# Altium integrated library Analog Devices Data Converters Digital-to-Analog Converters.IntLib: 2231 symbols (part 120 of 181)
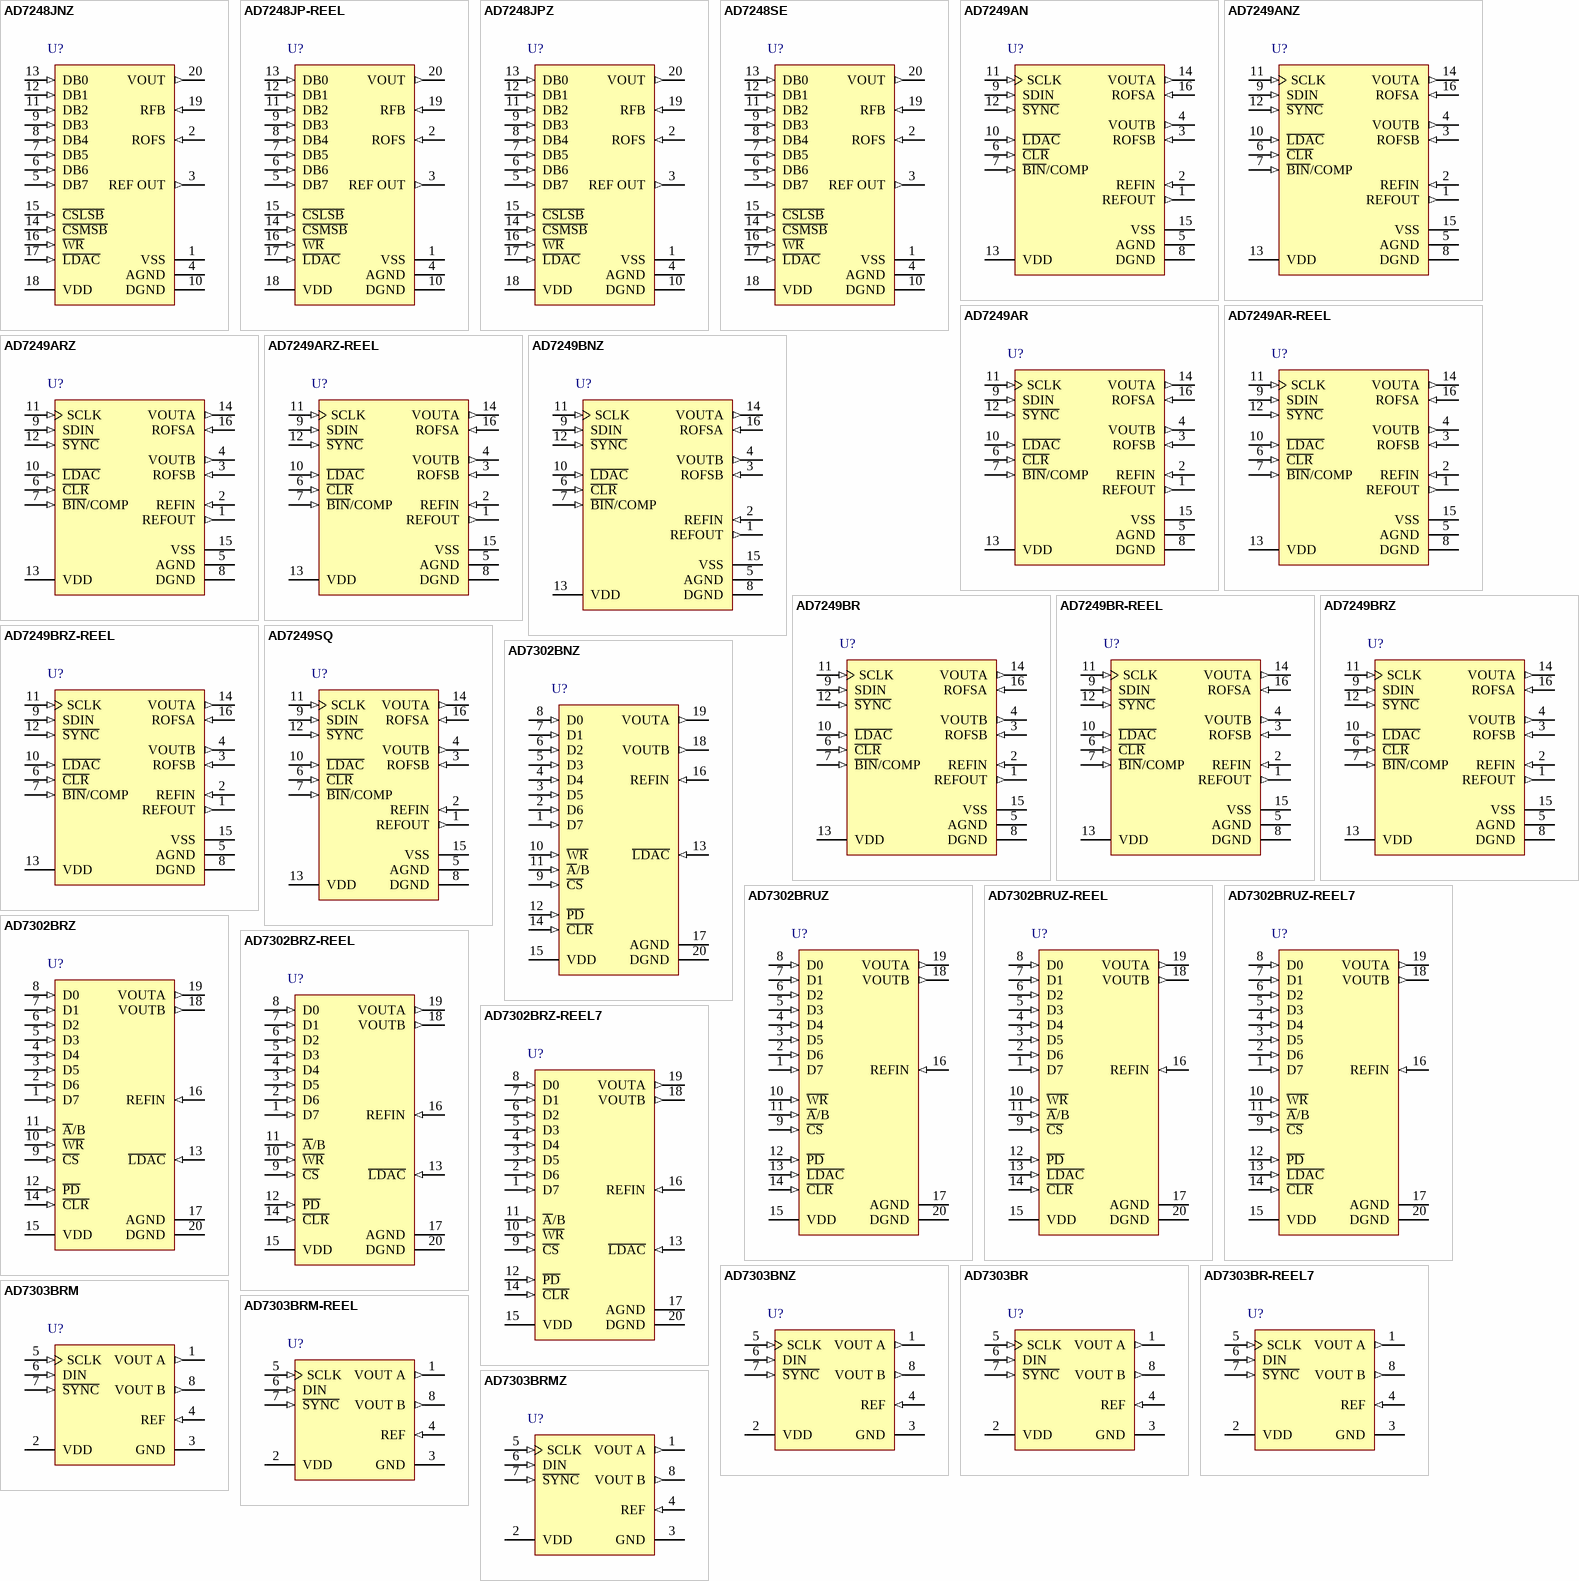
[diagram p233: symbols AD7248JNZ to AD7303BRMZ]

## AD7303BR
designator U?
Dual 8-Bit Voltage Output Digital-to-Analog Converter with Serial Interface, 2.7 to 5.5 V, 0 to +70 degC, R-8, Tube; Generic Part Number: AD7303; Manufacturer: Analog Devices; PartNumber: AD7303BR; # DAC Outputs: 2; Max V+: 5.5V; Op Pwr Diss: 6.93mW; Resolution (Bits): 8; Settling Time: 1.2µs; Single Supply: Yes; DatasheetVersion: Rev.0; PackageVersion: 060506-A; PackageReference: R-8; PackageDescription: 8-Lead Standard Small Outline Package [SOIC_N] Narrow Body; Supplier 1: Digi-Key; Supplier Part Number 1: AD7303BR-ND; Supplier 2: Mouser; Supplier Part Number 2: 584-AD7303BR; Packing: Tube; RoHS: N; Mounting Technology: Surface Mount; Code_JEDEC: MS-012-AA; Code_IPC: SOIC127P600-8; ComponentLink1Description: Manufacturer URL; ComponentLink1URL: http://www.analog.com/en/index.html; ComponentLink2Description: Datasheet; ComponentLink2URL: http://www.analog.com/static/imported-files/data_sheets/AD7303.pdf; ComponentLink3Description: Package Specification; ComponentLink3URL: http://www.analog.com/static/imported-files/packages/PKG_PDF/SOIC_Narrow%20(R)/R_8.pdf; ComponentLink4Description: Product URL; ComponentLink4URL: http://www.analog.com/en/digital-to-analog-converters/da-converters/ad7303/products/product.html
footprint R-8_N (SOIC, 8-Leads, Body 4.9x3.9mm, Pitch 1.27mm, IPC Medium Density)
footprint R-8_L (SOIC, 8-Leads, Body 4.9x3.9mm, Pitch 1.27mm, IPC High Density)
footprint R-8_M (SOIC, 8-Leads, Body 4.9x3.9mm, Pitch 1.27mm, IPC Low Density)
pins: 1 VOUT A (out) "Analog Output Voltage from DAC A. The output amplifier swings rail to rail on its output.", 2 VDD (power) "Power Supply Input. These parts can be operated from +2.7 V to +5.5 V and should be decoupled to GND.", 3 GND (power) "Ground reference point for all circuitry on the part.", 4 REF (in) "External Reference Input. This can be used as the reference for both DACs, and is selected by setting the I\N\T\/EXT bit in the control register to a logic one. The range on this reference input is 1 V to VDD/2. When the (See Datasheet)", 5 SCLK (in) "Serial Clock. Logic Input. Data is clocked into the input shift register on the rising edge of the serial clock input. Data can be transferred at rates up to 30 MHz.", 6 DIN (in) "Serial Data Input. This device has a 16-bit shift register, 8 bits for data and 8 bits for control. Data is clocked into the register on the rising edge of the clock input.", 7 ~{SYNC} (in) "Level Triggered Control Input (active low). This is the frame synchronization signal for the input data. When S\Y\N\C\ goes low, it enables the input shift register and data is transferred in on the rising edges of the (See Datasheet)", 8 VOUT B (out) "Analog output voltage from DAC B. The output amplifier swings rail to rail on its output."

## AD7303BR-REEL7
designator U?
Dual 8-Bit Voltage Output Digital-to-Analog Converter with Serial Interface, 2.7 to 5.5 V, 0 to +70 degC, R-8, Reel; Generic Part Number: AD7303; Manufacturer: Analog Devices; PartNumber: AD7303BR-REEL7; # DAC Outputs: 2; Max V+: 5.5V; Op Pwr Diss: 6.93mW; Resolution (Bits): 8; Settling Time: 1.2µs; Single Supply: Yes; DatasheetVersion: Rev.0; PackageVersion: 060506-A; PackageReference: R-8; PackageDescription: 8-Lead Standard Small Outline Package [SOIC_N] Narrow Body; Supplier 1: Digi-Key; Supplier Part Number 1: AD7303BR-REEL7-ND; Supplier 2: Mouser; Supplier Part Number 2: 584-AD7303BR-R7; Packing: Reel; RoHS: N; Mounting Technology: Surface Mount; Code_JEDEC: MS-012-AA; Code_IPC: SOIC127P600-8; ComponentLink1Description: Manufacturer URL; ComponentLink1URL: http://www.analog.com/en/index.html; ComponentLink2Description: Datasheet; ComponentLink2URL: http://www.analog.com/static/imported-files/data_sheets/AD7303.pdf; ComponentLink3Description: Package Specification; ComponentLink3URL: http://www.analog.com/static/imported-files/packages/PKG_PDF/SOIC_Narrow%20(R)/R_8.pdf; ComponentLink4Description: Product URL; ComponentLink4URL: http://www.analog.com/en/digital-to-analog-converters/da-converters/ad7303/products/product.html
footprint R-8_N (SOIC, 8-Leads, Body 4.9x3.9mm, Pitch 1.27mm, IPC Medium Density)
footprint R-8_L (SOIC, 8-Leads, Body 4.9x3.9mm, Pitch 1.27mm, IPC High Density)
footprint R-8_M (SOIC, 8-Leads, Body 4.9x3.9mm, Pitch 1.27mm, IPC Low Density)
pins: 1 VOUT A (out) "Analog Output Voltage from DAC A. The output amplifier swings rail to rail on its output.", 2 VDD (power) "Power Supply Input. These parts can be operated from +2.7 V to +5.5 V and should be decoupled to GND.", 3 GND (power) "Ground reference point for all circuitry on the part.", 4 REF (in) "External Reference Input. This can be used as the reference for both DACs, and is selected by setting the I\N\T\/EXT bit in the control register to a logic one. The range on this reference input is 1 V to VDD/2. When the (See Datasheet)", 5 SCLK (in) "Serial Clock. Logic Input. Data is clocked into the input shift register on the rising edge of the serial clock input. Data can be transferred at rates up to 30 MHz.", 6 DIN (in) "Serial Data Input. This device has a 16-bit shift register, 8 bits for data and 8 bits for control. Data is clocked into the register on the rising edge of the clock input.", 7 ~{SYNC} (in) "Level Triggered Control Input (active low). This is the frame synchronization signal for the input data. When S\Y\N\C\ goes low, it enables the input shift register and data is transferred in on the rising edges of the (See Datasheet)", 8 VOUT B (out) "Analog output voltage from DAC B. The output amplifier swings rail to rail on its output."

## AD7303BRM
designator U?
Dual 8-Bit Voltage Output Digital-to-Analog Converter with Serial Interface, 2.7 to 5.5 V, -40 to +105 degC, RM-8, Tube; Generic Part Number: AD7303; Manufacturer: Analog Devices; PartNumber: AD7303BRM; # DAC Outputs: 2; Max V+: 5.5V; Op Pwr Diss: 6.93mW; Resolution (Bits): 8; Settling Time: 1.2µs; Single Supply: Yes; DatasheetVersion: Rev.0; PackageVersion: Aug-2005; PackageReference: RM-8; PackageDescription: 8-Lead Mini Small Outline Package [MSOP]; Supplier 1: Digi-Key; Supplier Part Number 1: AD7303BRM-ND; Supplier 2: Mouser; Supplier Part Number 2: 584-AD7303BRM; Packing: Tube; RoHS: N; Mounting Technology: Surface Mount; Code_JEDEC: MO-187-AA; ComponentLink1Description: Manufacturer URL; ComponentLink1URL: http://www.analog.com/en/index.html; ComponentLink2Description: Datasheet; ComponentLink2URL: http://www.analog.com/static/imported-files/data_sheets/AD7303.pdf; ComponentLink3Description: Package Specification; ComponentLink3URL: http://www.analog.com/static/imported-files/packages/PKG_PDF/MSOP%28RM%29/RM_8.pdf; ComponentLink4Description: Product URL; ComponentLink4URL: http://www.analog.com/en/digital-to-analog-converters/da-converters/ad7303/products/product.html
footprint RM-8_N (TSOP, 8-Leads, Body 3x3mm, Pitch 0.65mm, IPC Medium Density)
footprint RM-8_L (TSOP, 8-Leads, Body 3x3mm, Pitch 0.65mm, IPC High Density)
footprint RM-8_M (TSOP, 8-Leads, Body 3x3mm, Pitch 0.65mm, IPC Low Density)
pins: 1 VOUT A (out) "Analog Output Voltage from DAC A. The output amplifier swings rail to rail on its output.", 2 VDD (power) "Power Supply Input. These parts can be operated from +2.7 V to +5.5 V and should be decoupled to GND.", 3 GND (power) "Ground reference point for all circuitry on the part.", 4 REF (in) "External Reference Input. This can be used as the reference for both DACs, and is selected by setting the I\N\T\/EXT bit in the control register to a logic one. The range on this reference input is 1 V to VDD/2. When the (See Datasheet)", 5 SCLK (in) "Serial Clock. Logic Input. Data is clocked into the input shift register on the rising edge of the serial clock input. Data can be transferred at rates up to 30 MHz.", 6 DIN (in) "Serial Data Input. This device has a 16-bit shift register, 8 bits for data and 8 bits for control. Data is clocked into the register on the rising edge of the clock input.", 7 ~{SYNC} (in) "Level Triggered Control Input (active low). This is the frame synchronization signal for the input data. When S\Y\N\C\ goes low, it enables the input shift register and data is transferred in on the rising edges of the (See Datasheet)", 8 VOUT B (out) "Analog output voltage from DAC B. The output amplifier swings rail to rail on its output."

## AD7303BRM-REEL
designator U?
Dual 8-Bit Voltage Output Digital-to-Analog Converter with Serial Interface, 2.7 to 5.5 V, -40 to +105 degC, RM-8, Reel; Generic Part Number: AD7303; Manufacturer: Analog Devices; PartNumber: AD7303BRM-REEL; # DAC Outputs: 2; Max V+: 5.5V; Op Pwr Diss: 6.93mW; Resolution (Bits): 8; Settling Time: 1.2µs; Single Supply: Yes; DatasheetVersion: Rev.0; PackageVersion: Aug-2005; PackageReference: RM-8; PackageDescription: 8-Lead Mini Small Outline Package [MSOP]; Supplier 1: Mouser; Supplier Part Number 1: N/A; Packing: Reel; RoHS: N; Mounting Technology: Surface Mount; Code_JEDEC: MO-187-AA; ComponentLink1Description: Manufacturer URL; ComponentLink1URL: http://www.analog.com/en/index.html; ComponentLink2Description: Datasheet; ComponentLink2URL: http://www.analog.com/static/imported-files/data_sheets/AD7303.pdf; ComponentLink3Description: Package Specification; ComponentLink3URL: http://www.analog.com/static/imported-files/packages/PKG_PDF/MSOP%28RM%29/RM_8.pdf; ComponentLink4Description: Product URL; ComponentLink4URL: http://www.analog.com/en/digital-to-analog-converters/da-converters/ad7303/products/product.html
footprint RM-8_N (TSOP, 8-Leads, Body 3x3mm, Pitch 0.65mm, IPC Medium Density)
footprint RM-8_L (TSOP, 8-Leads, Body 3x3mm, Pitch 0.65mm, IPC High Density)
footprint RM-8_M (TSOP, 8-Leads, Body 3x3mm, Pitch 0.65mm, IPC Low Density)
pins: 1 VOUT A (out) "Analog Output Voltage from DAC A. The output amplifier swings rail to rail on its output.", 2 VDD (power) "Power Supply Input. These parts can be operated from +2.7 V to +5.5 V and should be decoupled to GND.", 3 GND (power) "Ground reference point for all circuitry on the part.", 4 REF (in) "External Reference Input. This can be used as the reference for both DACs, and is selected by setting the I\N\T\/EXT bit in the control register to a logic one. The range on this reference input is 1 V to VDD/2. When the (See Datasheet)", 5 SCLK (in) "Serial Clock. Logic Input. Data is clocked into the input shift register on the rising edge of the serial clock input. Data can be transferred at rates up to 30 MHz.", 6 DIN (in) "Serial Data Input. This device has a 16-bit shift register, 8 bits for data and 8 bits for control. Data is clocked into the register on the rising edge of the clock input.", 7 ~{SYNC} (in) "Level Triggered Control Input (active low). This is the frame synchronization signal for the input data. When S\Y\N\C\ goes low, it enables the input shift register and data is transferred in on the rising edges of the (See Datasheet)", 8 VOUT B (out) "Analog output voltage from DAC B. The output amplifier swings rail to rail on its output."

## AD7303BRMZ
designator U?
Dual 8-Bit Voltage Output Digital-to-Analog Converter with Serial Interface, 2.7 to 5.5 V, -40 to +105 degC, RM-8, Pb-Free, Tube; Generic Part Number: AD7303; Manufacturer: Analog Devices; PartNumber: AD7303BRMZ; # DAC Outputs: 2; Max V+: 5.5V; Op Pwr Diss: 6.93mW; Resolution (Bits): 8; Settling Time: 1.2µs; Single Supply: Yes; DatasheetVersion: Rev.0; PackageVersion: Aug-2005; PackageReference: RM-8; PackageDescription: 8-Lead Mini Small Outline Package [MSOP]; Supplier 1: Digi-Key; Supplier Part Number 1: AD7303BRMZ-ND; Supplier 2: Newark; Supplier Part Number 2: 59K4694; Supplier 3: Mouser; Supplier Part Number 3: 584-AD7303BRMZ; Packing: Tube; RoHS: Y; Mounting Technology: Surface Mount; Code_JEDEC: MO-187-AA; ComponentLink1Description: Manufacturer URL; ComponentLink1URL: http://www.analog.com/en/index.html; ComponentLink2Description: Datasheet; ComponentLink2URL: http://www.analog.com/static/imported-files/data_sheets/AD7303.pdf; ComponentLink3Description: Package Specification; ComponentLink3URL: http://www.analog.com/static/imported-files/packages/PKG_PDF/MSOP%28RM%29/RM_8.pdf; ComponentLink4Description: Product URL; ComponentLink4URL: http://www.analog.com/en/digital-to-analog-converters/da-converters/ad7303/products/product.html
footprint RM-8_N (TSOP, 8-Leads, Body 3x3mm, Pitch 0.65mm, IPC Medium Density)
footprint RM-8_L (TSOP, 8-Leads, Body 3x3mm, Pitch 0.65mm, IPC High Density)
footprint RM-8_M (TSOP, 8-Leads, Body 3x3mm, Pitch 0.65mm, IPC Low Density)
pins: 1 VOUT A (out) "Analog Output Voltage from DAC A. The output amplifier swings rail to rail on its output.", 2 VDD (power) "Power Supply Input. These parts can be operated from +2.7 V to +5.5 V and should be decoupled to GND.", 3 GND (power) "Ground reference point for all circuitry on the part.", 4 REF (in) "External Reference Input. This can be used as the reference for both DACs, and is selected by setting the I\N\T\/EXT bit in the control register to a logic one. The range on this reference input is 1 V to VDD/2. When the (See Datasheet)", 5 SCLK (in) "Serial Clock. Logic Input. Data is clocked into the input shift register on the rising edge of the serial clock input. Data can be transferred at rates up to 30 MHz.", 6 DIN (in) "Serial Data Input. This device has a 16-bit shift register, 8 bits for data and 8 bits for control. Data is clocked into the register on the rising edge of the clock input.", 7 ~{SYNC} (in) "Level Triggered Control Input (active low). This is the frame synchronization signal for the input data. When S\Y\N\C\ goes low, it enables the input shift register and data is transferred in on the rising edges of the (See Datasheet)", 8 VOUT B (out) "Analog output voltage from DAC B. The output amplifier swings rail to rail on its output."

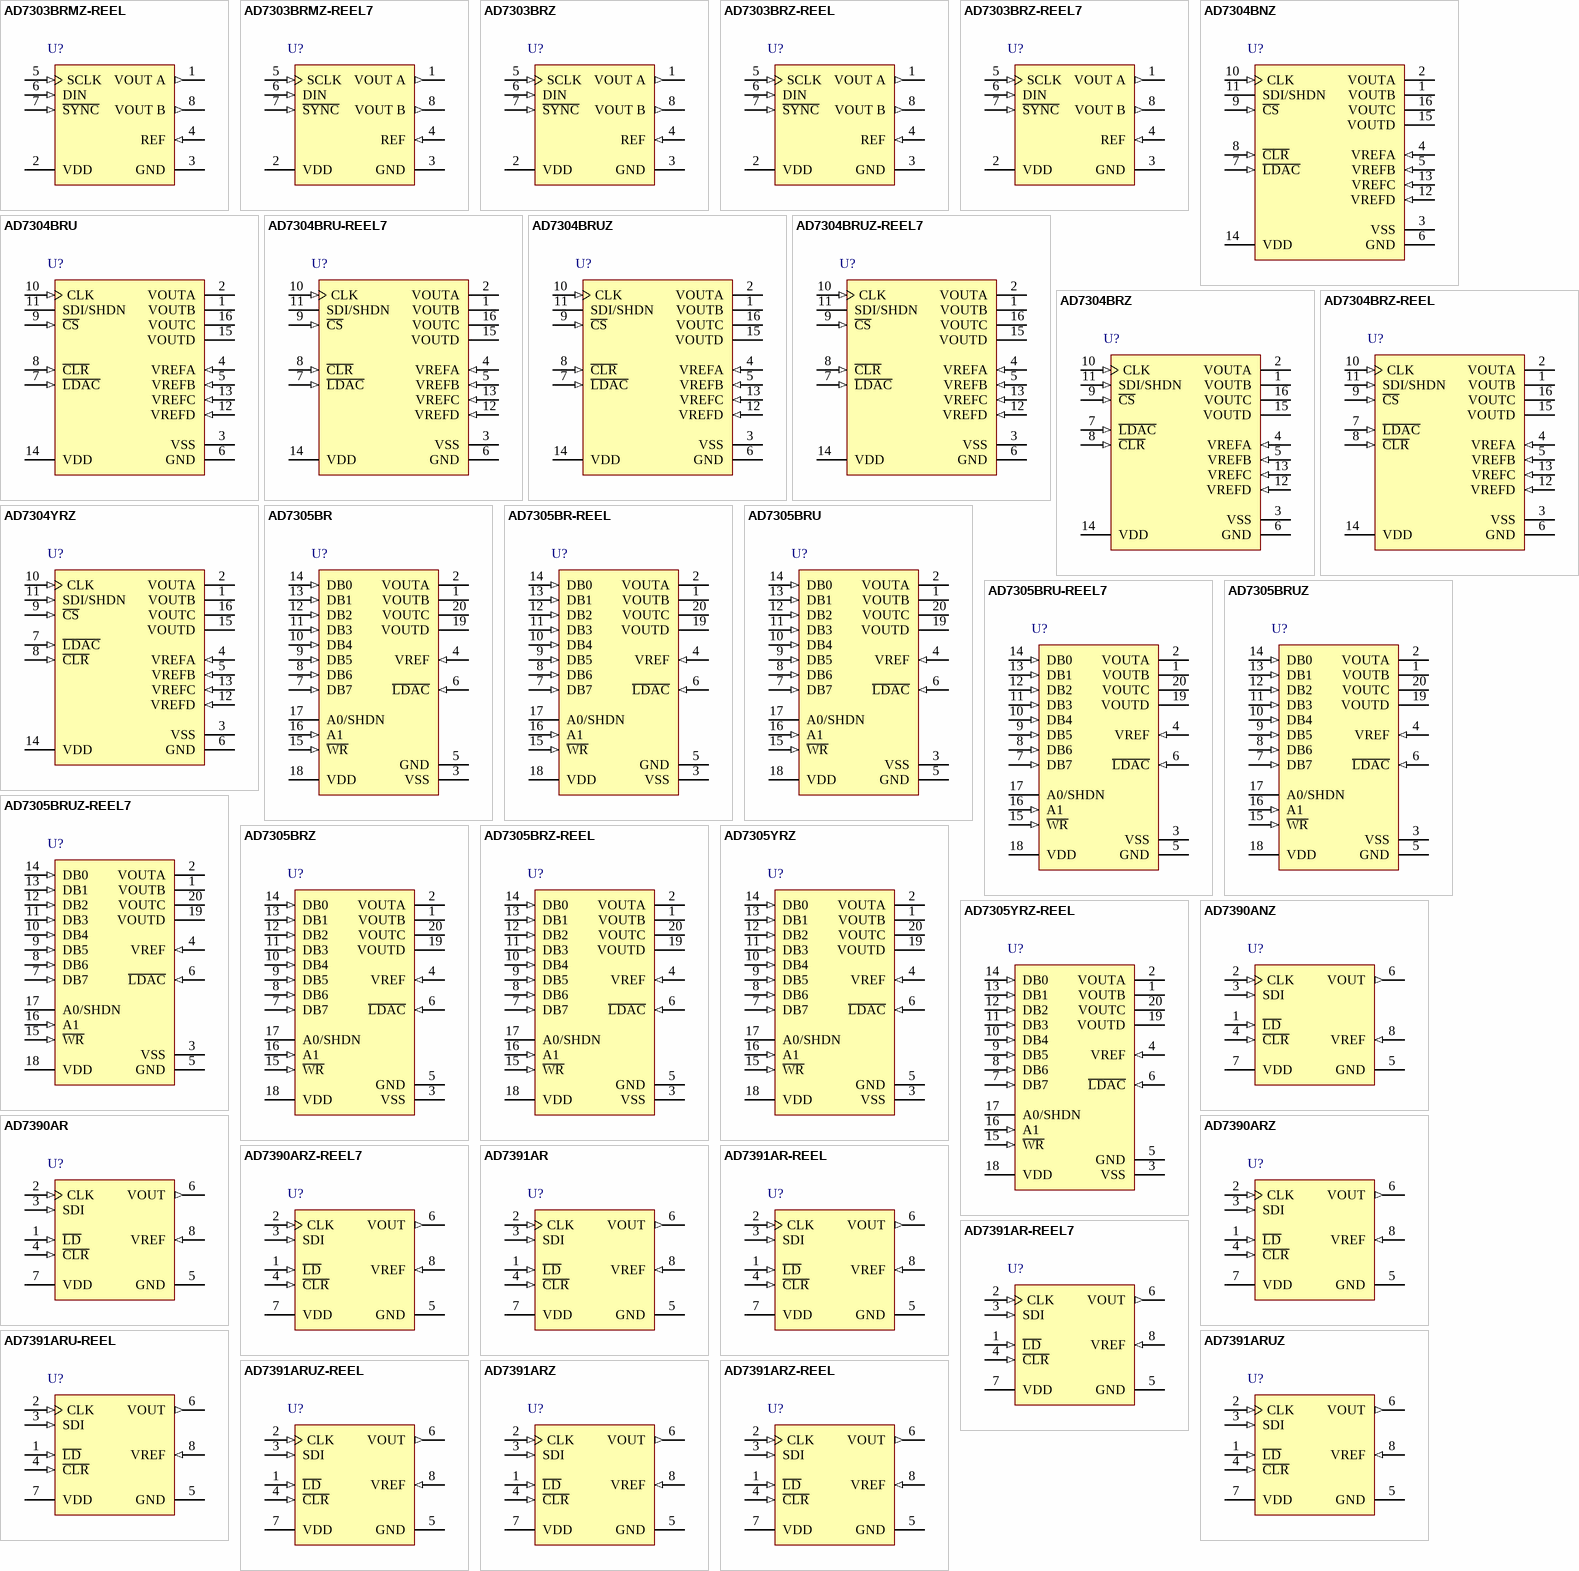
[diagram p64: symbols AD7303BRMZ-REEL to AD7391ARZ-REEL]

## AD7303BRMZ-REEL
designator U?
Dual 8-Bit Voltage Output Digital-to-Analog Converter with Serial Interface, 2.7 to 5.5 V, 0 to +70 degC, RM-8, Pb-Free, Reel; Generic Part Number: AD7303; Manufacturer: Analog Devices; PartNumber: AD7303BRMZ-REEL; # DAC Outputs: 2; Max V+: 5.5V; Op Pwr Diss: 6.93mW; Resolution (Bits): 8; Settling Time: 1.2µs; Single Supply: Yes; DatasheetVersion: Rev.0; PackageVersion: Aug-2005; PackageReference: RM-8; PackageDescription: 8-Lead Mini Small Outline Package [MSOP]; Supplier 1: Digi-Key; Supplier Part Number 1: AD7303BRMZ-REEL-ND; Supplier 2: Mouser; Supplier Part Number 2: 584-AD7303BRMZ-R; Packing: Reel; RoHS: Y; Mounting Technology: Surface Mount; Code_JEDEC: MO-187-AA; ComponentLink1Description: Manufacturer URL; ComponentLink1URL: http://www.analog.com/en/index.html; ComponentLink2Description: Datasheet; ComponentLink2URL: http://www.analog.com/static/imported-files/data_sheets/AD7303.pdf; ComponentLink3Description: Package Specification; ComponentLink3URL: http://www.analog.com/static/imported-files/packages/PKG_PDF/MSOP%28RM%29/RM_8.pdf; ComponentLink4Description: Product URL; ComponentLink4URL: http://www.analog.com/en/digital-to-analog-converters/da-converters/ad7303/products/product.html
footprint RM-8_N (TSOP, 8-Leads, Body 3x3mm, Pitch 0.65mm, IPC Medium Density)
footprint RM-8_L (TSOP, 8-Leads, Body 3x3mm, Pitch 0.65mm, IPC High Density)
footprint RM-8_M (TSOP, 8-Leads, Body 3x3mm, Pitch 0.65mm, IPC Low Density)
pins: 1 VOUT A (out) "Analog Output Voltage from DAC A. The output amplifier swings rail to rail on its output.", 2 VDD (power) "Power Supply Input. These parts can be operated from +2.7 V to +5.5 V and should be decoupled to GND.", 3 GND (power) "Ground reference point for all circuitry on the part.", 4 REF (in) "External Reference Input. This can be used as the reference for both DACs, and is selected by setting the I\N\T\/EXT bit in the control register to a logic one. The range on this reference input is 1 V to VDD/2. When the (See Datasheet)", 5 SCLK (in) "Serial Clock. Logic Input. Data is clocked into the input shift register on the rising edge of the serial clock input. Data can be transferred at rates up to 30 MHz.", 6 DIN (in) "Serial Data Input. This device has a 16-bit shift register, 8 bits for data and 8 bits for control. Data is clocked into the register on the rising edge of the clock input.", 7 ~{SYNC} (in) "Level Triggered Control Input (active low). This is the frame synchronization signal for the input data. When S\Y\N\C\ goes low, it enables the input shift register and data is transferred in on the rising edges of the (See Datasheet)", 8 VOUT B (out) "Analog output voltage from DAC B. The output amplifier swings rail to rail on its output."

## AD7303BRMZ-REEL7
designator U?
Dual 8-Bit Voltage Output Digital-to-Analog Converter with Serial Interface, 2.7 to 5.5 V, 0 to +70 degC, RM-8, Pb-Free, Reel; Generic Part Number: AD7303; Manufacturer: Analog Devices; PartNumber: AD7303BRMZ-REEL7; # DAC Outputs: 2; Max V+: 5.5V; Op Pwr Diss: 6.93mW; Resolution (Bits): 8; Settling Time: 1.2µs; Single Supply: Yes; DatasheetVersion: Rev.0; PackageVersion: Aug-2005; PackageReference: RM-8; PackageDescription: 8-Lead Mini Small Outline Package [MSOP]; Supplier 1: Digi-Key; Supplier Part Number 1: AD7303BRMZ-REEL7-ND; Supplier 2: Mouser; Supplier Part Number 2: 584-AD7303BRMZ-R7; Packing: Reel; RoHS: Y; Mounting Technology: Surface Mount; Code_JEDEC: MO-187-AA; ComponentLink1Description: Manufacturer URL; ComponentLink1URL: http://www.analog.com/en/index.html; ComponentLink2Description: Datasheet; ComponentLink2URL: http://www.analog.com/static/imported-files/data_sheets/AD7303.pdf; ComponentLink3Description: Package Specification; ComponentLink3URL: http://www.analog.com/static/imported-files/packages/PKG_PDF/MSOP%28RM%29/RM_8.pdf; ComponentLink4Description: Product URL; ComponentLink4URL: http://www.analog.com/en/digital-to-analog-converters/da-converters/ad7303/products/product.html
footprint RM-8_N (TSOP, 8-Leads, Body 3x3mm, Pitch 0.65mm, IPC Medium Density)
footprint RM-8_L (TSOP, 8-Leads, Body 3x3mm, Pitch 0.65mm, IPC High Density)
footprint RM-8_M (TSOP, 8-Leads, Body 3x3mm, Pitch 0.65mm, IPC Low Density)
pins: 1 VOUT A (out) "Analog Output Voltage from DAC A. The output amplifier swings rail to rail on its output.", 2 VDD (power) "Power Supply Input. These parts can be operated from +2.7 V to +5.5 V and should be decoupled to GND.", 3 GND (power) "Ground reference point for all circuitry on the part.", 4 REF (in) "External Reference Input. This can be used as the reference for both DACs, and is selected by setting the I\N\T\/EXT bit in the control register to a logic one. The range on this reference input is 1 V to VDD/2. When the (See Datasheet)", 5 SCLK (in) "Serial Clock. Logic Input. Data is clocked into the input shift register on the rising edge of the serial clock input. Data can be transferred at rates up to 30 MHz.", 6 DIN (in) "Serial Data Input. This device has a 16-bit shift register, 8 bits for data and 8 bits for control. Data is clocked into the register on the rising edge of the clock input.", 7 ~{SYNC} (in) "Level Triggered Control Input (active low). This is the frame synchronization signal for the input data. When S\Y\N\C\ goes low, it enables the input shift register and data is transferred in on the rising edges of the (See Datasheet)", 8 VOUT B (out) "Analog output voltage from DAC B. The output amplifier swings rail to rail on its output."

## AD7303BRZ
designator U?
Dual 8-Bit Voltage Output Digital-to-Analog Converter with Serial Interface, 2.7 to 5.5 V, 0 to +70 degC, R-8, Pb-Free, Tube; Generic Part Number: AD7303; Manufacturer: Analog Devices; PartNumber: AD7303BRZ; # DAC Outputs: 2; Max V+: 5.5V; Op Pwr Diss: 6.93mW; Resolution (Bits): 8; Settling Time: 1.2µs; Single Supply: Yes; DatasheetVersion: Rev.0; PackageVersion: 060506-A; PackageReference: R-8; PackageDescription: 8-Lead Standard Small Outline Package [SOIC_N] Narrow Body; Supplier 1: Digi-Key; Supplier Part Number 1: AD7303BRZ-ND; Supplier 2: Farnell; Supplier Part Number 2: 1838896; Supplier 3: Newark; Supplier Part Number 3: 19M8835; Supplier 4: Newark; Supplier Part Number 4: 04X4616; Supplier 5: Mouser; Supplier Part Number 5: 584-AD7303BRZ; Packing: Tube; RoHS: Y; Mounting Technology: Surface Mount; Code_JEDEC: MS-012-AA; Code_IPC: SOIC127P600-8; ComponentLink1Description: Manufacturer URL; ComponentLink1URL: http://www.analog.com/en/index.html; ComponentLink2Description: Datasheet; ComponentLink2URL: http://www.analog.com/static/imported-files/data_sheets/AD7303.pdf; ComponentLink3Description: Package Specification; ComponentLink3URL: http://www.analog.com/static/imported-files/packages/PKG_PDF/SOIC_Narrow%20(R)/R_8.pdf; ComponentLink4Description: Product URL; ComponentLink4URL: http://www.analog.com/en/digital-to-analog-converters/da-converters/ad7303/products/product.html
footprint R-8_N (SOIC, 8-Leads, Body 4.9x3.9mm, Pitch 1.27mm, IPC Medium Density)
footprint R-8_L (SOIC, 8-Leads, Body 4.9x3.9mm, Pitch 1.27mm, IPC High Density)
footprint R-8_M (SOIC, 8-Leads, Body 4.9x3.9mm, Pitch 1.27mm, IPC Low Density)
pins: 1 VOUT A (out) "Analog Output Voltage from DAC A. The output amplifier swings rail to rail on its output.", 2 VDD (power) "Power Supply Input. These parts can be operated from +2.7 V to +5.5 V and should be decoupled to GND.", 3 GND (power) "Ground reference point for all circuitry on the part.", 4 REF (in) "External Reference Input. This can be used as the reference for both DACs, and is selected by setting the I\N\T\/EXT bit in the control register to a logic one. The range on this reference input is 1 V to VDD/2. When the (See Datasheet)", 5 SCLK (in) "Serial Clock. Logic Input. Data is clocked into the input shift register on the rising edge of the serial clock input. Data can be transferred at rates up to 30 MHz.", 6 DIN (in) "Serial Data Input. This device has a 16-bit shift register, 8 bits for data and 8 bits for control. Data is clocked into the register on the rising edge of the clock input.", 7 ~{SYNC} (in) "Level Triggered Control Input (active low). This is the frame synchronization signal for the input data. When S\Y\N\C\ goes low, it enables the input shift register and data is transferred in on the rising edges of the (See Datasheet)", 8 VOUT B (out) "Analog output voltage from DAC B. The output amplifier swings rail to rail on its output."

## AD7303BRZ-REEL
designator U?
Dual 8-Bit Voltage Output Digital-to-Analog Converter with Serial Interface, 2.7 to 5.5 V, 0 to +70 degC, R-8, Pb-Free, Reel; Generic Part Number: AD7303; Manufacturer: Analog Devices; PartNumber: AD7303BRZ-REEL; # DAC Outputs: 2; Max V+: 5.5V; Op Pwr Diss: 6.93mW; Resolution (Bits): 8; Settling Time: 1.2µs; Single Supply: Yes; DatasheetVersion: Rev.0; PackageVersion: 060506-A; PackageReference: R-8; PackageDescription: 8-Lead Standard Small Outline Package [SOIC_N] Narrow Body; Supplier 1: Digi-Key; Supplier Part Number 1: AD7303BRZ-REEL-ND; Supplier 2: Mouser; Supplier Part Number 2: 584-AD7303BRZ-R; Packing: Reel; RoHS: Y; Mounting Technology: Surface Mount; Code_JEDEC: MS-012-AA; Code_IPC: SOIC127P600-8; ComponentLink1Description: Manufacturer URL; ComponentLink1URL: http://www.analog.com/en/index.html; ComponentLink2Description: Datasheet; ComponentLink2URL: http://www.analog.com/static/imported-files/data_sheets/AD7303.pdf; ComponentLink3Description: Package Specification; ComponentLink3URL: http://www.analog.com/static/imported-files/packages/PKG_PDF/SOIC_Narrow%20(R)/R_8.pdf; ComponentLink4Description: Product URL; ComponentLink4URL: http://www.analog.com/en/digital-to-analog-converters/da-converters/ad7303/products/product.html
footprint R-8_N (SOIC, 8-Leads, Body 4.9x3.9mm, Pitch 1.27mm, IPC Medium Density)
footprint R-8_L (SOIC, 8-Leads, Body 4.9x3.9mm, Pitch 1.27mm, IPC High Density)
footprint R-8_M (SOIC, 8-Leads, Body 4.9x3.9mm, Pitch 1.27mm, IPC Low Density)
pins: 1 VOUT A (out) "Analog Output Voltage from DAC A. The output amplifier swings rail to rail on its output.", 2 VDD (power) "Power Supply Input. These parts can be operated from +2.7 V to +5.5 V and should be decoupled to GND.", 3 GND (power) "Ground reference point for all circuitry on the part.", 4 REF (in) "External Reference Input. This can be used as the reference for both DACs, and is selected by setting the I\N\T\/EXT bit in the control register to a logic one. The range on this reference input is 1 V to VDD/2. When the (See Datasheet)", 5 SCLK (in) "Serial Clock. Logic Input. Data is clocked into the input shift register on the rising edge of the serial clock input. Data can be transferred at rates up to 30 MHz.", 6 DIN (in) "Serial Data Input. This device has a 16-bit shift register, 8 bits for data and 8 bits for control. Data is clocked into the register on the rising edge of the clock input.", 7 ~{SYNC} (in) "Level Triggered Control Input (active low). This is the frame synchronization signal for the input data. When S\Y\N\C\ goes low, it enables the input shift register and data is transferred in on the rising edges of the (See Datasheet)", 8 VOUT B (out) "Analog output voltage from DAC B. The output amplifier swings rail to rail on its output."

## AD7303BRZ-REEL7
designator U?
Dual 8-Bit Voltage Output Digital-to-Analog Converter with Serial Interface, 2.7 to 5.5 V, 0 to +70 degC, R-8, Pb-Free, Reel; Generic Part Number: AD7303; Manufacturer: Analog Devices; PartNumber: AD7303BRZ-REEL7; # DAC Outputs: 2; Max V+: 5.5V; Op Pwr Diss: 6.93mW; Resolution (Bits): 8; Settling Time: 1.2µs; Single Supply: Yes; DatasheetVersion: Rev.0; PackageVersion: 060506-A; PackageReference: R-8; PackageDescription: 8-Lead Standard Small Outline Package [SOIC_N] Narrow Body; Supplier 1: Digi-Key; Supplier Part Number 1: AD7303BRZ-REEL7-ND; Supplier 2: Mouser; Supplier Part Number 2: 584-AD7303BRZ-R7; Packing: Reel; RoHS: Y; Mounting Technology: Surface Mount; Code_JEDEC: MS-012-AA; Code_IPC: SOIC127P600-8; ComponentLink1Description: Manufacturer URL; ComponentLink1URL: http://www.analog.com/en/index.html; ComponentLink2Description: Datasheet; ComponentLink2URL: http://www.analog.com/static/imported-files/data_sheets/AD7303.pdf; ComponentLink3Description: Package Specification; ComponentLink3URL: http://www.analog.com/static/imported-files/packages/PKG_PDF/SOIC_Narrow%20(R)/R_8.pdf; ComponentLink4Description: Product URL; ComponentLink4URL: http://www.analog.com/en/digital-to-analog-converters/da-converters/ad7303/products/product.html
footprint R-8_N (SOIC, 8-Leads, Body 4.9x3.9mm, Pitch 1.27mm, IPC Medium Density)
footprint R-8_L (SOIC, 8-Leads, Body 4.9x3.9mm, Pitch 1.27mm, IPC High Density)
footprint R-8_M (SOIC, 8-Leads, Body 4.9x3.9mm, Pitch 1.27mm, IPC Low Density)
pins: 1 VOUT A (out) "Analog Output Voltage from DAC A. The output amplifier swings rail to rail on its output.", 2 VDD (power) "Power Supply Input. These parts can be operated from +2.7 V to +5.5 V and should be decoupled to GND.", 3 GND (power) "Ground reference point for all circuitry on the part.", 4 REF (in) "External Reference Input. This can be used as the reference for both DACs, and is selected by setting the I\N\T\/EXT bit in the control register to a logic one. The range on this reference input is 1 V to VDD/2. When the (See Datasheet)", 5 SCLK (in) "Serial Clock. Logic Input. Data is clocked into the input shift register on the rising edge of the serial clock input. Data can be transferred at rates up to 30 MHz.", 6 DIN (in) "Serial Data Input. This device has a 16-bit shift register, 8 bits for data and 8 bits for control. Data is clocked into the register on the rising edge of the clock input.", 7 ~{SYNC} (in) "Level Triggered Control Input (active low). This is the frame synchronization signal for the input data. When S\Y\N\C\ goes low, it enables the input shift register and data is transferred in on the rising edges of the (See Datasheet)", 8 VOUT B (out) "Analog output voltage from DAC B. The output amplifier swings rail to rail on its output."

## AD7304BNZ
designator U?
Quad 8-Bit Rail-to-Rail Output Digital-to-Analog Converter, 3 V / 5 V, -40 to +85 degC, N-16, Pb-Free, Tube; Generic Part Number: AD7304; Manufacturer: Analog Devices; PartNumber: AD7304BNZ; # DAC Outputs: 4; Max V+: 5.5V; Op Pwr Diss: 60mW; Resolution (Bits): 8; Settling Time: 1µs; Single Supply: Yes; DatasheetVersion: Rev.C; PackageVersion: 070706-A; PackageReference: N-16; PackageDescription: 16-Lead Plastic Dual In-Line Package [PDIP] Narrow Body; Supplier 1: Mouser; Supplier Part Number 1: N/A; Packing: Tube; RoHS: Y; Mounting Technology: Through Hole; Code_JEDEC: MS-001; ComponentLink1Description: Manufacturer URL; ComponentLink1URL: http://www.analog.com/en/index.html; ComponentLink2Description: Datasheet; ComponentLink2URL: http://www.analog.com/static/imported-files/data_sheets/AD7304_7305.pdf; ComponentLink3Description: Package Specification; ComponentLink3URL: http://www.analog.com/static/imported-files/packages/44768431550332N_16.pdf; ComponentLink4Description: Product URL; ComponentLink4URL: http://www.analog.com/en/digital-to-analog-converters/da-converters/ad7304/products/product.html
footprint N-16 (DIP, 16-Leads, Row Spacing 7.62mm, Pitch 2.54mm, Body 20.1x6.6mm)
pins: 1 VOUTB (hiz) "Channel B Rail-to-Rail Buffered DAC Voltage Output. Full-scale set by reference voltage applied to VREFB pin. Output is open circuit when SHDN is enabled.", 2 VOUTA (hiz) "Channel A Rail-to-Rail Buffered DAC Voltage Output. Full-scale set by reference voltage applied to VREFA pin. Output is open circuit when SHDN is enabled.", 3 VSS (power) "Negative Power Supply Input. Specified range of operation is 0 V to ?5.5 V.", 4 VREFA (in) "Channel A Reference Input. Establishes VOUTA full-scale voltage. Specified range of operation is VSS < VREFA < VDD.", 5 VREFB (in) "Channel B Reference Input. Establishes VOUTB full-scale voltage. Specified range of operation is VSS < VREFB < VDD.", 6 GND (power) "Common Analog and Digital Ground.", 7 ~{LDAC} (in) "Load DAC Register Strobe, Active Low. Simultaneously transfers data from all four input registers into the corresponding DAC registers. Asynchronous active low input. DAC register is transparent when L\D\A\C\ = 0. See Table (See Datasheet)", 8 ~{CLR} (in) "Clears All Input and DAC Registers to the Zero Condition. Asynchronous active low input. The serial register is not effected.", 9 ~{CS} (in) "Chip Select, Active Low Input. Disables shift register loading when high. Transfers serial input register data to the decoded input register when C\S\ returns high. Does not effect L\D\A\C\ operation.", 10 CLK (in) "Clock Input, Positive Edge Clocks Data into Shift Register. Disabled by chip select C\S\.", 11 SDI/SHDN "Serial Data Input Loads Directly into the Shift Register, MSB First. Hardware shutdown (SHDN) control input, active when pin is left floating by a three-state logic driver. Does not effect DAC register contents as long as (See Datasheet)", 12 VREFD (in) "Channel D Reference Input. Establishes VOUTD full-scale voltage. Specified range of operation is VSS < VREFD < VDD.", 13 VREFC (in) "Channel C Reference Input. Establishes VOUTC full-scale voltage. Specified range of operation is VSS VREFC < VDD.", 14 VDD (power) "Positive Power Supply Input. Specified range of operation is 2.7 V to 5.5 V.", 15 VOUTD (hiz) "Channel D Rail-to-Rail Buffered DAC Voltage Output. Full-scale set by reference voltage applied to VREFD pin. Output is open circuit when SHDN is enabled.", 16 VOUTC (hiz) "Channel C Rail-to-Rail Buffered DAC Voltage Output. Full-scale set by reference voltage applied to VREFC pin. Output is open circuit when SHDN is enabled."

## AD7304BRU
designator U?
Quad 8-Bit Rail-to-Rail Output Digital-to-Analog Converter, 3 V / 5 V, -40 to +85 degC, RU-16, Tube; Generic Part Number: AD7304; Manufacturer: Analog Devices; PartNumber: AD7304BRU; # DAC Outputs: 4; Max V+: 5.5V; Op Pwr Diss: 60mW; Resolution (Bits): 8; Settling Time: 1µs; Single Supply: Yes; DatasheetVersion: Rev.C; PackageVersion: Nov-2002; PackageReference: RU-16; PackageDescription: 16-Lead Thin Shrink Small Outline Package [TSSOP]; Supplier 1: Digi-Key; Supplier Part Number 1: AD7304BRU-ND; Supplier 2: Mouser; Supplier Part Number 2: 584-AD7304BRU; Packing: Tube; RoHS: N; Mounting Technology: Surface Mount; Code_JEDEC: MO-153-AB; ComponentLink1Description: Manufacturer URL; ComponentLink1URL: http://www.analog.com/en/index.html; ComponentLink2Description: Datasheet; ComponentLink2URL: http://www.analog.com/static/imported-files/data_sheets/AD7304_7305.pdf; ComponentLink3Description: Package Specification; ComponentLink3URL: http://www.analog.com/static/imported-files/packages/36244347913743854010197452789RU16.pdf; ComponentLink4Description: Product URL; ComponentLink4URL: http://www.analog.com/en/digital-to-analog-converters/da-converters/ad7304/products/product.html
footprint RU-16_N (TSOP, 16-Leads, Body 5x4.4mm, Pitch 0.65mm, IPC Medium Density)
footprint RU-16_L (TSOP, 16-Leads, Body 5x4.4mm, Pitch 0.65mm, IPC High Density)
footprint RU-16_M (TSOP, 16-Leads, Body 5x4.4mm, Pitch 0.65mm, IPC Low Density)
pins: 1 VOUTB (hiz) "Channel B Rail-to-Rail Buffered DAC Voltage Output. Full-scale set by reference voltage applied to VREFB pin. Output is open circuit when SHDN is enabled.", 2 VOUTA (hiz) "Channel A Rail-to-Rail Buffered DAC Voltage Output. Full-scale set by reference voltage applied to VREFA pin. Output is open circuit when SHDN is enabled.", 3 VSS (power) "Negative Power Supply Input. Specified range of operation is 0 V to -5.5 V.", 4 VREFA (in) "Channel A Reference Input. Establishes VOUTA full-scale voltage. Specified range of operation is VSS < VREFA < VDD.", 5 VREFB (in) "Channel B Reference Input. Establishes VOUTB full-scale voltage. Specified range of operation is VSS < VREFB < VDD.", 6 GND (power) "Common Analog and Digital Ground.", 7 ~{LDAC} (in) "Load DAC Register Strobe, Active Low. Simultaneously transfers data from all four input registers into the corresponding DAC registers. Asynchronous active low input. DAC register is transparent when L\D\A\C\ = 0. See Table (See Datasheet)", 8 ~{CLR} (in) "Clears All Input and DAC Registers to the Zero Condition. Asynchronous active low input. The serial register is not effected.", 9 ~{CS} (in) "Chip Select, Active Low Input. Disables shift register loading when high. Transfers serial input register data to the decoded input register when C\S\ returns high. Does not effect L\D\A\C\ operation.", 10 CLK (in) "Clock Input, Positive Edge Clocks Data into Shift Register. Disabled by chip select C\S\.", 11 SDI/SHDN "Serial Data Input Loads Directly into the Shift Register, MSB First. Hardware shutdown (SHDN) control input, active when pin is left floating by a three-state logic driver. Does not effect DAC register contents as long as (See Datasheet)", 12 VREFD (in) "Channel D Reference Input. Establishes VOUTD full-scale voltage. Specified range of operation is VSS < VREFD < VDD.", 13 VREFC (in) "Channel C Reference Input. Establishes VOUTC full-scale voltage. Specified range of operation is VSS VREFC < VDD.", 14 VDD (power) "Positive Power Supply Input. Specified range of operation is 2.7 V to 5.5 V.", 15 VOUTD (hiz) "Channel D Rail-to-Rail Buffered DAC Voltage Output. Full-scale set by reference voltage applied to VREFD pin. Output is open circuit when SHDN is enabled.", 16 VOUTC (hiz) "Channel C Rail-to-Rail Buffered DAC Voltage Output. Full-scale set by reference voltage applied to VREFC pin. Output is open circuit when SHDN is enabled."

## AD7304BRU-REEL7
designator U?
Quad 8-Bit Rail-to-Rail Output Digital-to-Analog Converter, 3 V / 5 V, -40 to +85 degC, RU-16, Reel; Generic Part Number: AD7304; Manufacturer: Analog Devices; PartNumber: AD7304BRU-REEL7; # DAC Outputs: 4; Max V+: 5.5V; Op Pwr Diss: 60mW; Resolution (Bits): 8; Settling Time: 1µs; Single Supply: Yes; DatasheetVersion: Rev.C; PackageVersion: Nov-2002; PackageReference: RU-16; PackageDescription: 16-Lead Thin Shrink Small Outline Package [TSSOP]; Supplier 1: Digi-Key; Supplier Part Number 1: AD7304BRU-REEL7-ND; Supplier 2: Newark; Supplier Part Number 2: 09B5643; Supplier 3: Mouser; Supplier Part Number 3: 584-AD7304BRU-R7; Packing: Reel; RoHS: N; Mounting Technology: Surface Mount; Code_JEDEC: MO-153-AB; ComponentLink1Description: Manufacturer URL; ComponentLink1URL: http://www.analog.com/en/index.html; ComponentLink2Description: Datasheet; ComponentLink2URL: http://www.analog.com/static/imported-files/data_sheets/AD7304_7305.pdf; ComponentLink3Description: Package Specification; ComponentLink3URL: http://www.analog.com/static/imported-files/packages/36244347913743854010197452789RU16.pdf; ComponentLink4Description: Product URL; ComponentLink4URL: http://www.analog.com/en/digital-to-analog-converters/da-converters/ad7304/products/product.html
footprint RU-16_N (TSOP, 16-Leads, Body 5x4.4mm, Pitch 0.65mm, IPC Medium Density)
footprint RU-16_L (TSOP, 16-Leads, Body 5x4.4mm, Pitch 0.65mm, IPC High Density)
footprint RU-16_M (TSOP, 16-Leads, Body 5x4.4mm, Pitch 0.65mm, IPC Low Density)
pins: 1 VOUTB (hiz) "Channel B Rail-to-Rail Buffered DAC Voltage Output. Full-scale set by reference voltage applied to VREFB pin. Output is open circuit when SHDN is enabled.", 2 VOUTA (hiz) "Channel A Rail-to-Rail Buffered DAC Voltage Output. Full-scale set by reference voltage applied to VREFA pin. Output is open circuit when SHDN is enabled.", 3 VSS (power) "Negative Power Supply Input. Specified range of operation is 0 V to -5.5 V.", 4 VREFA (in) "Channel A Reference Input. Establishes VOUTA full-scale voltage. Specified range of operation is VSS < VREFA < VDD.", 5 VREFB (in) "Channel B Reference Input. Establishes VOUTB full-scale voltage. Specified range of operation is VSS < VREFB < VDD.", 6 GND (power) "Common Analog and Digital Ground.", 7 ~{LDAC} (in) "Load DAC Register Strobe, Active Low. Simultaneously transfers data from all four input registers into the corresponding DAC registers. Asynchronous active low input. DAC register is transparent when L\D\A\C\ = 0. See Table (See Datasheet)", 8 ~{CLR} (in) "Clears All Input and DAC Registers to the Zero Condition. Asynchronous active low input. The serial register is not effected.", 9 ~{CS} (in) "Chip Select, Active Low Input. Disables shift register loading when high. Transfers serial input register data to the decoded input register when C\S\ returns high. Does not effect L\D\A\C\ operation.", 10 CLK (in) "Clock Input, Positive Edge Clocks Data into Shift Register. Disabled by chip select C\S\.", 11 SDI/SHDN "Serial Data Input Loads Directly into the Shift Register, MSB First. Hardware shutdown (SHDN) control input, active when pin is left floating by a three-state logic driver. Does not effect DAC register contents as long as (See Datasheet)", 12 VREFD (in) "Channel D Reference Input. Establishes VOUTD full-scale voltage. Specified range of operation is VSS < VREFD < VDD.", 13 VREFC (in) "Channel C Reference Input. Establishes VOUTC full-scale voltage. Specified range of operation is VSS VREFC < VDD.", 14 VDD (power) "Positive Power Supply Input. Specified range of operation is 2.7 V to 5.5 V.", 15 VOUTD (hiz) "Channel D Rail-to-Rail Buffered DAC Voltage Output. Full-scale set by reference voltage applied to VREFD pin. Output is open circuit when SHDN is enabled.", 16 VOUTC (hiz) "Channel C Rail-to-Rail Buffered DAC Voltage Output. Full-scale set by reference voltage applied to VREFC pin. Output is open circuit when SHDN is enabled."

## AD7304BRUZ
designator U?
Quad 8-Bit Rail-to-Rail Output Digital-to-Analog Converter, 3 V / 5 V, -40 to +85 degC, RU-16, Pb-Free, Tube; Generic Part Number: AD7304; Manufacturer: Analog Devices; PartNumber: AD7304BRUZ; # DAC Outputs: 4; Max V+: 5.5V; Op Pwr Diss: 60mW; Resolution (Bits): 8; Settling Time: 1µs; Single Supply: Yes; DatasheetVersion: Rev.C; PackageVersion: Nov-2002; PackageReference: RU-16; PackageDescription: 16-Lead Thin Shrink Small Outline Package [TSSOP]; Supplier 1: Digi-Key; Supplier Part Number 1: AD7304BRUZ-ND; Supplier 2: Newark; Supplier Part Number 2: 59K4700; Supplier 3: Mouser; Supplier Part Number 3: 584-AD7304BRUZ; Packing: Tube; RoHS: Y; Mounting Technology: Surface Mount; Code_JEDEC: MO-153-AB; ComponentLink1Description: Manufacturer URL; ComponentLink1URL: http://www.analog.com/en/index.html; ComponentLink2Description: Datasheet; ComponentLink2URL: http://www.analog.com/static/imported-files/data_sheets/AD7304_7305.pdf; ComponentLink3Description: Package Specification; ComponentLink3URL: http://www.analog.com/static/imported-files/packages/36244347913743854010197452789RU16.pdf; ComponentLink4Description: Product URL; ComponentLink4URL: http://www.analog.com/en/digital-to-analog-converters/da-converters/ad7304/products/product.html
footprint RU-16_N (TSOP, 16-Leads, Body 5x4.4mm, Pitch 0.65mm, IPC Medium Density)
footprint RU-16_L (TSOP, 16-Leads, Body 5x4.4mm, Pitch 0.65mm, IPC High Density)
footprint RU-16_M (TSOP, 16-Leads, Body 5x4.4mm, Pitch 0.65mm, IPC Low Density)
pins: 1 VOUTB (hiz) "Channel B Rail-to-Rail Buffered DAC Voltage Output. Full-scale set by reference voltage applied to VREFB pin. Output is open circuit when SHDN is enabled.", 2 VOUTA (hiz) "Channel A Rail-to-Rail Buffered DAC Voltage Output. Full-scale set by reference voltage applied to VREFA pin. Output is open circuit when SHDN is enabled.", 3 VSS (power) "Negative Power Supply Input. Specified range of operation is 0 V to -5.5 V.", 4 VREFA (in) "Channel A Reference Input. Establishes VOUTA full-scale voltage. Specified range of operation is VSS < VREFA < VDD.", 5 VREFB (in) "Channel B Reference Input. Establishes VOUTB full-scale voltage. Specified range of operation is VSS < VREFB < VDD.", 6 GND (power) "Common Analog and Digital Ground.", 7 ~{LDAC} (in) "Load DAC Register Strobe, Active Low. Simultaneously transfers data from all four input registers into the corresponding DAC registers. Asynchronous active low input. DAC register is transparent when L\D\A\C\ = 0. See Table (See Datasheet)", 8 ~{CLR} (in) "Clears All Input and DAC Registers to the Zero Condition. Asynchronous active low input. The serial register is not effected.", 9 ~{CS} (in) "Chip Select, Active Low Input. Disables shift register loading when high. Transfers serial input register data to the decoded input register when C\S\ returns high. Does not effect L\D\A\C\ operation.", 10 CLK (in) "Clock Input, Positive Edge Clocks Data into Shift Register. Disabled by chip select C\S\.", 11 SDI/SHDN "Serial Data Input Loads Directly into the Shift Register, MSB First. Hardware shutdown (SHDN) control input, active when pin is left floating by a three-state logic driver. Does not effect DAC register contents as long as (See Datasheet)", 12 VREFD (in) "Channel D Reference Input. Establishes VOUTD full-scale voltage. Specified range of operation is VSS < VREFD < VDD.", 13 VREFC (in) "Channel C Reference Input. Establishes VOUTC full-scale voltage. Specified range of operation is VSS VREFC < VDD.", 14 VDD (power) "Positive Power Supply Input. Specified range of operation is 2.7 V to 5.5 V.", 15 VOUTD (hiz) "Channel D Rail-to-Rail Buffered DAC Voltage Output. Full-scale set by reference voltage applied to VREFD pin. Output is open circuit when SHDN is enabled.", 16 VOUTC (hiz) "Channel C Rail-to-Rail Buffered DAC Voltage Output. Full-scale set by reference voltage applied to VREFC pin. Output is open circuit when SHDN is enabled."

## AD7304BRUZ-REEL7
designator U?
Quad 8-Bit Rail-to-Rail Output Digital-to-Analog Converter, 3 V / 5 V, -40 to +85 degC, RU-16, Pb-Free, Reel; Generic Part Number: AD7304; Manufacturer: Analog Devices; PartNumber: AD7304BRUZ-REEL7; # DAC Outputs: 4; Max V+: 5.5V; Op Pwr Diss: 60mW; Resolution (Bits): 8; Settling Time: 1µs; Single Supply: Yes; DatasheetVersion: Rev.C; PackageVersion: Nov-2002; PackageReference: RU-16; PackageDescription: 16-Lead Thin Shrink Small Outline Package [TSSOP]; Supplier 1: Digi-Key; Supplier Part Number 1: AD7304BRUZ-REEL7-ND; Supplier 2: Newark; Supplier Part Number 2: 59K4701; Supplier 3: Mouser; Supplier Part Number 3: 584-AD7304BRUZ-R7; Packing: Reel; RoHS: Y; Mounting Technology: Surface Mount; Code_JEDEC: MO-153-AB; ComponentLink1Description: Manufacturer URL; ComponentLink1URL: http://www.analog.com/en/index.html; ComponentLink2Description: Datasheet; ComponentLink2URL: http://www.analog.com/static/imported-files/data_sheets/AD7304_7305.pdf; ComponentLink3Description: Package Specification; ComponentLink3URL: http://www.analog.com/static/imported-files/packages/36244347913743854010197452789RU16.pdf; ComponentLink4Description: Product URL; ComponentLink4URL: http://www.analog.com/en/digital-to-analog-converters/da-converters/ad7304/products/product.html
footprint RU-16_N (TSOP, 16-Leads, Body 5x4.4mm, Pitch 0.65mm, IPC Medium Density)
footprint RU-16_L (TSOP, 16-Leads, Body 5x4.4mm, Pitch 0.65mm, IPC High Density)
footprint RU-16_M (TSOP, 16-Leads, Body 5x4.4mm, Pitch 0.65mm, IPC Low Density)
pins: 1 VOUTB (hiz) "Channel B Rail-to-Rail Buffered DAC Voltage Output. Full-scale set by reference voltage applied to VREFB pin. Output is open circuit when SHDN is enabled.", 2 VOUTA (hiz) "Channel A Rail-to-Rail Buffered DAC Voltage Output. Full-scale set by reference voltage applied to VREFA pin. Output is open circuit when SHDN is enabled.", 3 VSS (power) "Negative Power Supply Input. Specified range of operation is 0 V to -5.5 V.", 4 VREFA (in) "Channel A Reference Input. Establishes VOUTA full-scale voltage. Specified range of operation is VSS < VREFA < VDD.", 5 VREFB (in) "Channel B Reference Input. Establishes VOUTB full-scale voltage. Specified range of operation is VSS < VREFB < VDD.", 6 GND (power) "Common Analog and Digital Ground.", 7 ~{LDAC} (in) "Load DAC Register Strobe, Active Low. Simultaneously transfers data from all four input registers into the corresponding DAC registers. Asynchronous active low input. DAC register is transparent when L\D\A\C\ = 0. See Table (See Datasheet)", 8 ~{CLR} (in) "Clears All Input and DAC Registers to the Zero Condition. Asynchronous active low input. The serial register is not effected.", 9 ~{CS} (in) "Chip Select, Active Low Input. Disables shift register loading when high. Transfers serial input register data to the decoded input register when C\S\ returns high. Does not effect L\D\A\C\ operation.", 10 CLK (in) "Clock Input, Positive Edge Clocks Data into Shift Register. Disabled by chip select C\S\.", 11 SDI/SHDN "Serial Data Input Loads Directly into the Shift Register, MSB First. Hardware shutdown (SHDN) control input, active when pin is left floating by a three-state logic driver. Does not effect DAC register contents as long as (See Datasheet)", 12 VREFD (in) "Channel D Reference Input. Establishes VOUTD full-scale voltage. Specified range of operation is VSS < VREFD < VDD.", 13 VREFC (in) "Channel C Reference Input. Establishes VOUTC full-scale voltage. Specified range of operation is VSS VREFC < VDD.", 14 VDD (power) "Positive Power Supply Input. Specified range of operation is 2.7 V to 5.5 V.", 15 VOUTD (hiz) "Channel D Rail-to-Rail Buffered DAC Voltage Output. Full-scale set by reference voltage applied to VREFD pin. Output is open circuit when SHDN is enabled.", 16 VOUTC (hiz) "Channel C Rail-to-Rail Buffered DAC Voltage Output. Full-scale set by reference voltage applied to VREFC pin. Output is open circuit when SHDN is enabled."